# Altium schematic symbol library IC_LM1086CT-3_3.Schlib: 1 symbol
Pins are listed as number, name and electrical type; pins without a type are passive.

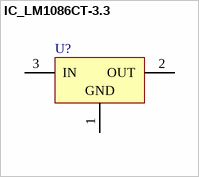
[diagram p0: symbol IC_LM1086CT-3.3]

## IC_LM1086CT-3.3
designator U?
1.5A Low Dropout Positive Regulators
pins: 1 GND (power), 2 OUT (power), 3 IN (power)